# Altium footprint library SOT23-3.PcbLib: 1 footprints
Each footprint in its own frame and in the unit in brackets; x right, y up, seen from the top. Pads: shape width x height; smd on the part's side, far side on the other; paste and mask are expansions set on the pad; w line width, h text height; cw(c..) or ccw(c..) is an arc to the next point about the centre after c.
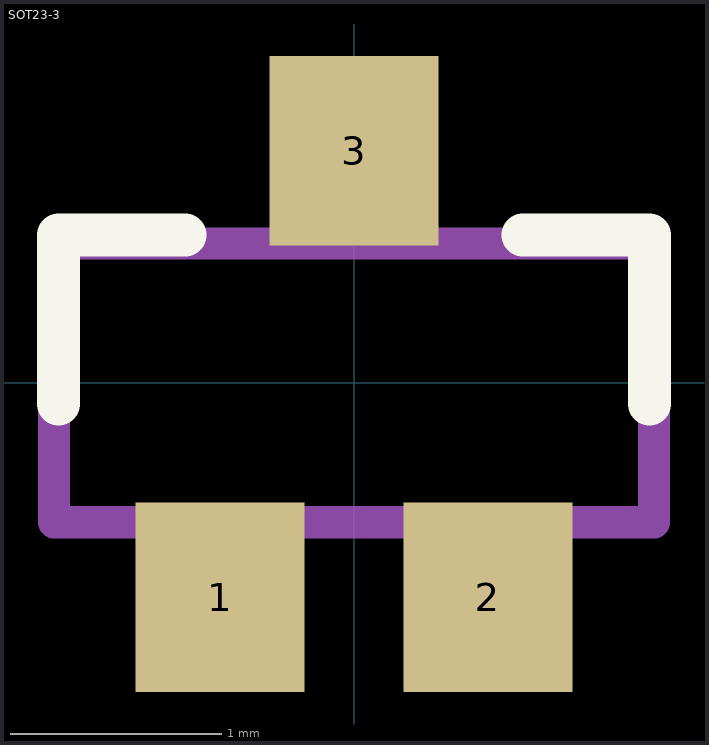
[diagram p0: the footprint, top view; thin cyan lines are the x and y axes]

## SOT23-3 [mm]
pads (3):
  rect 0.8x0.9 smd: 1(-0.635,-1.016) 2(0.635,-1.016) 3(0,1.1)
Top Overlay:
  lines w0.203: -1.4,-0.1 -1.4,0.7 -0.8,0.7 ; 0.8,0.7 1.4,0.7 1.4,-0.1
Mechanical 13:
  lines w0.152: -1.422,-0.66 -1.422,0.66 1.422,0.66 1.422,-0.66 -1.422,-0.66
3D body "PESD1CAN.STEP": height 1, standoff 0, extent -1.05,-1.05 1.05,1.05